# Altium schematic symbol library ATSAMD11C14A-SSNT.SchLib: 1 symbol
Pins are listed as number, name and electrical type; pins without a type are passive.

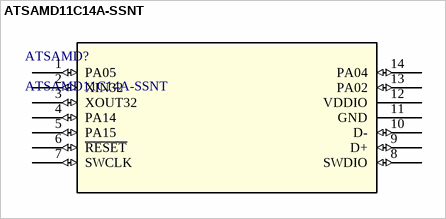
[diagram p0: symbol ATSAMD11C14A-SSNT]

## ATSAMD11C14A-SSNT
designator ATSAMD?
No Description Available; Mfr_Name: Microchip; Copyright: Copyright (C) 2023 Ultra Librarian. All rights reserved.; Manufacturer_Part_Number: ATSAMD11C14A-SSNT; RefDes: RefDes; Type: DEV
footprint ATSAMD11C14A-SSNT
pins: 1 PA05 (io), 2 XIN32 (io), 3 XOUT32 (io), 4 PA14 (io), 5 PA15 (io), 6 ~{RESET} (io), 7 SWCLK (io), 8 SWDIO (io), 9 D+ (io), 10 D- (io), 11 GND (power), 12 VDDIO (power), 13 PA02 (io), 14 PA04 (io)